# Altium schematic symbol library Switch.SchLib: 2 symbols
Pins are listed as number, name and electrical type; pins without a type are passive.

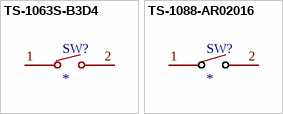
[diagram p0: symbols TS-1063S-B3D4 to TS-1088-AR02016]

## TS-1063S-B3D4
designator SW?
footprint KEY-SMD_L3.0-W2.5-LS4.0_TS-1603S
pins: 1, 2

## TS-1088-AR02016
designator SW?
footprint SW-SMD_L3.9-W3.0-P4.45
pins: 1, 2